# Altium footprint library Mechanical.PcbLib: 5 footprints
Each footprint in its own frame and in the unit in brackets; x right, y up, seen from the top. Pads: shape width x height; smd on the part's side, far side on the other; paste and mask are expansions set on the pad; w line width, h text height; cw(c..) or ccw(c..) is an arc to the next point about the centre after c.
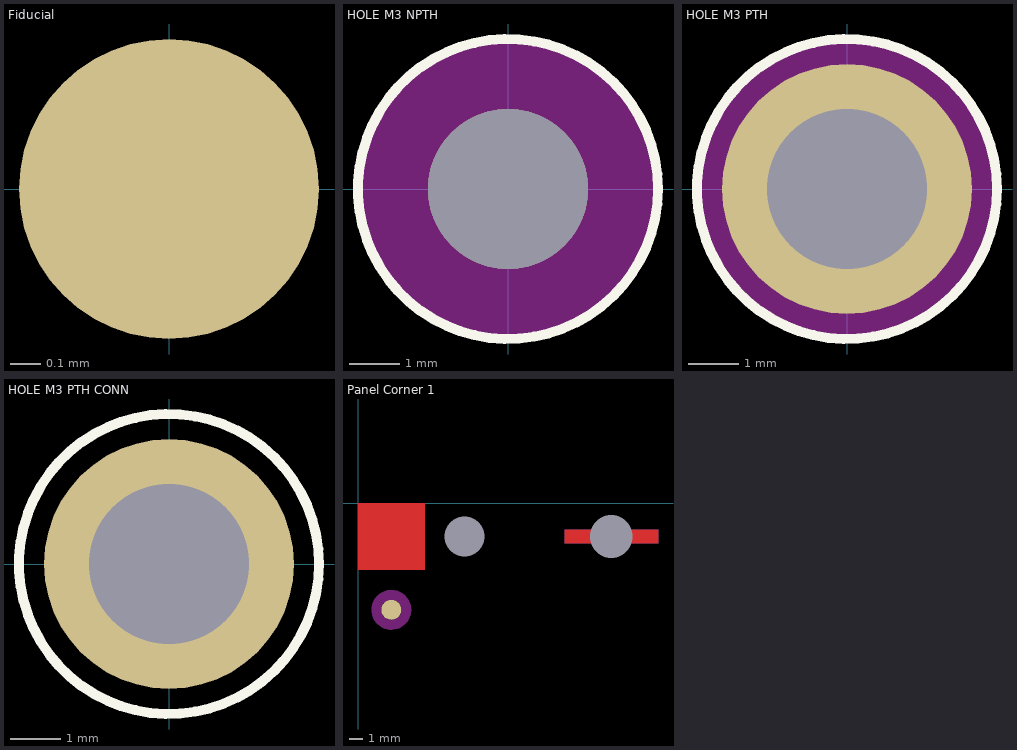
[diagram p0: the footprints below, top view; thin cyan lines are the x and y axes]

## Fiducial [mm] "Fiducial"
height 1
pads (1):
  round 1 smd paste-1 mask+0.5: ""(0,0)
3D body: height 0.5, standoff -0.5, extent -0.495,-0.498 0.5,0.498

## HOLE M3 NPTH [mm] "Hole 3mm diameter, non-plated"
pads (1):
  round 3.2 hole 3.2 unplated: ""(0,0)
Top Overlay:
  circle w0.2: c0,0 r3
Bottom Overlay:
  circle w0.2: c0,0 r3
Keep-Out Layer:
  circle w2: c0,0 r2

## HOLE M3 PTH [mm] "Hole 3mm diameter, plated"
pads (1):
  round 5 hole 3.2: ""(0,0)
Top Overlay:
  circle w0.2: c0,0 r3
Bottom Overlay:
  circle w0.2: c0,0 r3
Keep-Out Layer:
  circle w2: c0,0 r2

## HOLE M3 PTH CONN [mm] "Hole 3mm diameter, plated connected to copper"
pads (1):
  round 5 hole 3.2: ""(0,0)
Top Overlay:
  circle w0.2: c0,0 r3
Bottom Overlay:
  circle w0.2: c0,0 r3

## Panel Corner 1 [mm] "Eurocircuits style panel corner"
pads (3):
  round 1.5 / inner round 0 / far side round 1.5 all layers, no hole mask+0.75: ""(2.5,-8)
  round 0 hole 3 unplated: ""(8,-2.5)
  round 0 hole 3.2 unplated: ""(19,-2.5)
Top Layer:
  pour cut-out: 15.5,-3 15.5,-2 22.5,-2 22.5,-3
  pour cut-out: 5,-5 0,-5 0,0 5,0
  region: 2.75,-1.125 2.75,-1.75 2.25,-1.75 2.25,-2.25 2.75,-2.25 2.75,-2.75 2.25,-2.75 2.25,-3.25 2.75,-3.25 2.75,-3.875 3.25,-3.875 3.25,-3.25 3.875,-3.25 3.875,-2.75 3.25,-2.75 3.25,-2.25 3.875,-2.25 3.875,-1.75 3.25,-1.75 3.25,-1.125
  region: 1.75,-1.125 2.25,-1.125 2.25,-3.875 1.75,-3.875 1.75,-3.25 1.125,-3.25 1.125,-2.75 1.75,-2.75 1.75,-2.25 1.125,-2.25 1.125,-1.75 1.75,-1.75
Bottom Layer:
  pour cut-out: 15.5,-3 15.5,-2 22.5,-2 22.5,-3
  pour cut-out: 5,-5 0,-5 0,0 5,0
  region: 2.75,-1.125 2.75,-1.75 2.25,-1.75 2.25,-2.25 2.75,-2.25 2.75,-2.75 2.25,-2.75 2.25,-3.25 2.75,-3.25 2.75,-3.875 3.25,-3.875 3.25,-3.25 3.875,-3.25 3.875,-2.75 3.25,-2.75 3.25,-2.25 3.875,-2.25 3.875,-1.75 3.25,-1.75 3.25,-1.125
  region: 1.75,-1.125 2.25,-1.125 2.25,-3.875 1.75,-3.875 1.75,-3.25 1.125,-3.25 1.125,-2.75 1.75,-2.75 1.75,-2.25 1.125,-2.25 1.125,-1.75 1.75,-1.75
Top Solder:
  rectangle: 0.5,-4.5 4.5,-0.5
Bottom Solder:
  rectangle: 0.5,-4.5 4.5,-0.5
Keep-Out Layer:
  circle w0.75: c2.5,-8 r1.125